# Altium footprint library DMP_PcbLib_SEM_MAIN_BOARD.PcbLib: 39 footprints (part 3 of 3)
Each footprint in its own frame and in the unit in brackets; x right, y up, seen from the top. Pads: shape width x height; smd on the part's side, far side on the other; paste and mask are expansions set on the pad; w line width, h text height; cw(c..) or ccw(c..) is an arc to the next point about the centre after c.
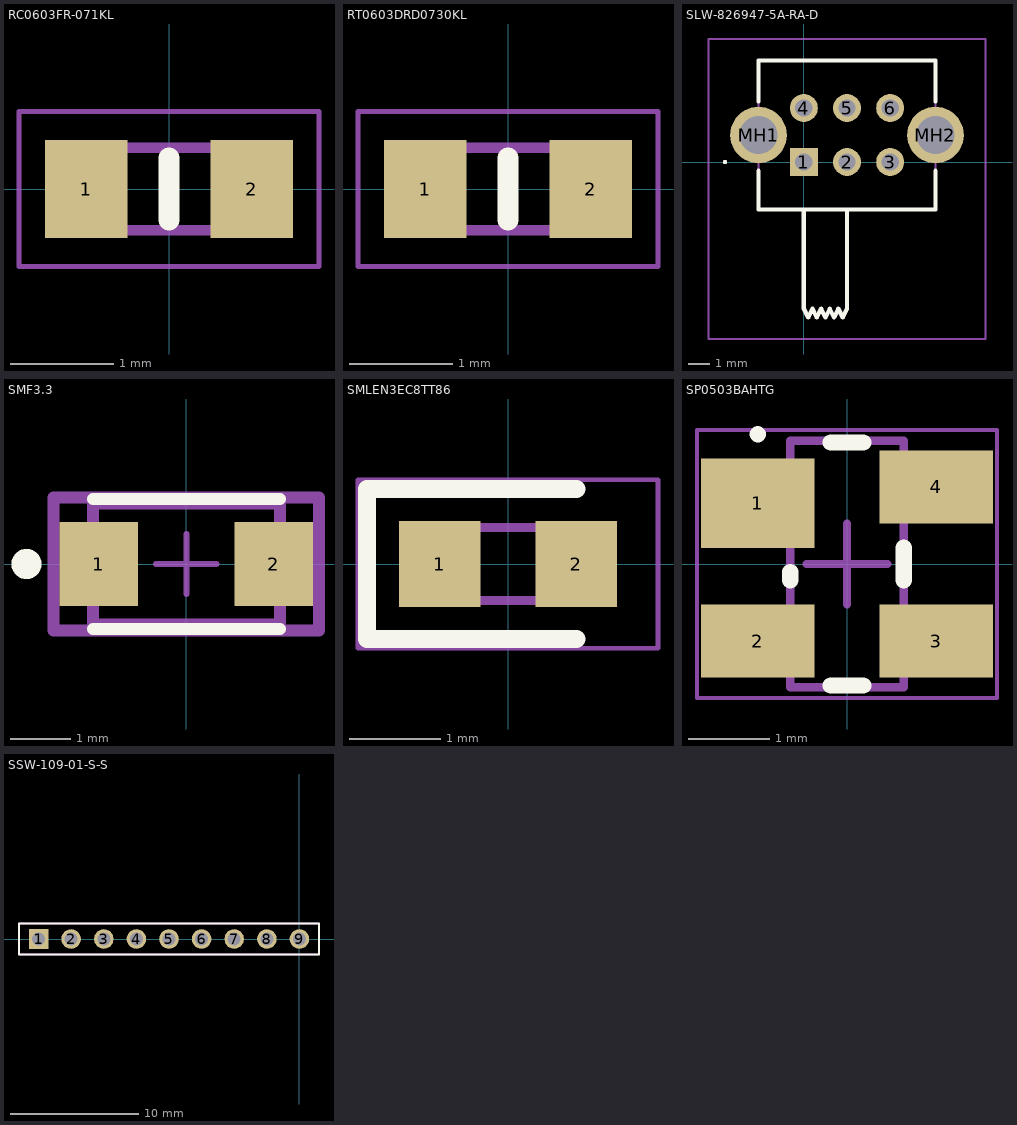
[diagram p2: the footprints below, top view; thin cyan lines are the x and y axes]

## RC0603FR-071KL [mm]
pads (2):
  rect 0.8x0.95 smd: 1(-0.8,0) 2(0.8,0)
Top Overlay:
  lines w0.2: 0,-0.3 0,0.3
Top 3D Body:
  lines w0.1: -0.8,-0.4 0.8,-0.4 0.8,0.4 -0.8,0.4 -0.8,-0.4
Top Courtyard:
  lines w0.05: -1.45,-0.75 1.45,-0.75 1.45,0.75 -1.45,0.75 -1.45,-0.75
3D body "RT0603BRD075K1L.stp": height 0.55, standoff 0, extent -0.8,-0.4 0.8,0.4

## RT0603DRD0730KL [mm]
pads (2):
  rect 0.8x0.95 smd: 1(-0.8,0) 2(0.8,0)
Top Overlay:
  lines w0.2: 0,-0.3 0,0.3
Top 3D Body:
  lines w0.1: -0.8,-0.4 0.8,-0.4 0.8,0.4 -0.8,0.4 -0.8,-0.4
Top Courtyard:
  lines w0.05: -1.45,-0.75 1.45,-0.75 1.45,0.75 -1.45,0.75 -1.45,-0.75
3D body "RT0603BRD075K1L.stp": height 0.55, standoff 0, extent -0.8,-0.4 0.8,0.4

## SLW-826947-5A-RA-D [mm]
pads (8):
  rect 1.3x1.3 hole 0.8: 1(0,0)
  round 1.3 hole 0.8: 2(2,0) 3(4,0) 4(0,2.5) 5(2,2.5) 6(4,2.5)
  round 2.625 hole 1.75: MH1(-2.1,1.25) MH2(6.1,1.25)
Top Overlay:
  lines w0.1: -3.7,0 ccw(c-3.65,0) -3.6,0 ccw(c-3.65,0) -3.7,0
  lines w0.2: -2.1,-0.4 -2.1,-2.2 6.1,-2.2 6.1,-0.4 ; -2.1,2.8 -2.1,4.7 6.1,4.7 6.1,2.8 ; 0,-2.2 0,-6.8 0.2,-7.2 0.4,-6.8 0.6,-7.2 0.8,-6.8 1,-7.2 1.2,-6.8 1.4,-7.2 1.6,-6.8 1.8,-7.2 2,-6.8 2,-2.2
Top 3D Body:
  lines w0.1: 0,-2.2 0,-6.8 0.2,-7.2 0.4,-6.8 0.6,-7.2 0.8,-6.8 1,-7.2 1.2,-6.8 1.4,-7.2 1.6,-6.8 1.8,-7.2 2,-6.8 2,-2.2 ; -2.1,-2.2 -2.1,4.7 6.1,4.7 6.1,-2.2 -2.1,-2.2
Top Courtyard:
  lines w0.1: -4.412,-8.2 -4.412,5.7 8.412,5.7 8.412,-8.2 -4.412,-8.2
3D body "SLW-826947-5A-RA-D.stp": height -0.8, standoff -8.3, extent -4.282,-3.45 4.282,8.45

## SMF3.3 [mm]
pads (2):
  rect 1.3x1.4 smd paste+0 mask+0: 1(-1.45,0.001) 2(1.45,0.001)
Top Overlay:
  circle w0.25: c-2.65,0.001 r0.125
  lines w0.2: -1.55,-1.074 1.55,-1.074 ; -1.55,1.076 1.55,1.076
Top Assembly:
  lines w0.2: -2.2,-1.099 2.2,-1.099 2.2,1.101 -2.2,1.101 -2.2,-1.099
  text ".Designator" at 0,0 h1
Top 3D Body:
  lines w0.2: -1.55,-0.999 1.55,-0.999 1.55,1.001 -1.55,1.001 -1.55,-0.999
Top Courtyard:
  lines w0.2: -2.2,-1.099 2.2,-1.099 2.2,1.101 -2.2,1.101 -2.2,-1.099
Top Component Center:
  lines w0.1: -0.5,0.001 0.5,0.001 ; 0,-0.499 0,0.501
3D body "Diode_Littelfuse_SMF3_3_eec.STEP": height 0.25, standoff 0, extent -2.2,-1.099 2.2,1.101

## SMLEN3EC8TT86 [mm]
pads (2):
  rect 0.9x0.95 smd: 1(-0.75,0) 2(0.75,0)
Top Overlay:
  lines w0.2: 0.75,-0.825 -1.55,-0.825 -1.55,0.825 0.75,0.825
Top 3D Body:
  lines w0.1: -0.8,0.133 -0.533,0.4 ; -0.8,-0.4 -0.8,0.4 0.8,0.4 0.8,-0.4 -0.8,-0.4
Top Courtyard:
  lines w0.05: -1.65,-0.925 -1.65,0.925 1.65,0.925 1.65,-0.925 -1.65,-0.925

## SP0503BAHTG [mm]
pads (4):
  rect 1.4x1.1 smd: 1(-1.1,0.75)
  rect 1.4x0.9 smd: 2(-1.1,-0.95) 3(1.1,-0.95) 4(1.1,0.95)
Top Overlay:
  circle w0.1: c-1.1,1.6 r0.05
  lines w0.2: -0.7,-0.2 -0.7,-0.1 ; -0.2,-1.5 0.2,-1.5 ; -0.2,1.5 0.2,1.5 ; 0.7,-0.2 0.7,0.2
Top 3D Body:
  lines w0.1: -0.7,-1.52 0.7,-1.52 0.7,1.52 -0.7,1.52 -0.7,-1.52
Top Courtyard:
  lines w0.05: -1.85,-1.65 1.85,-1.65 1.85,1.65 -1.85,1.65 -1.85,-1.65
  lines w0.1: -0.5,0 0.5,0 ; 0,-0.5 0,0.5
3D body: height 1.22, standoff 0.05, extent -0.7,-1.52 0.7,1.52

## SSW-109-01-S-S [mil]
pads (9):
  rect 60x60 hole 40: 1(-800,0)
  round 60 hole 40: 2(-700,0) 3(-600,0) 4(-500,0) 5(-400,0) 6(-300,0) 7(-200,0) 8(-100,0) 9(0,0)
Top Overlay:
  lines w6: -860,-48 -860,48 60,48 60,-48 -860,-48
Top 3D Body:
  lines w6: -860,-48 -860,48 60,48 60,-48 -860,-48
3D body "SSQ-109-03-T-S.stp": height 335.04, standoff -393.7, extent -860.04,-47.44 60.04,47.44